# Altium integrated library LD1117S33CTR.IntLib: 1 symbol
Pins are listed as number, name and electrical type; pins without a type are passive.

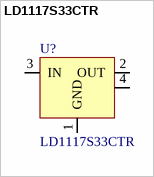
[diagram p0: symbol LD1117S33CTR]

## LD1117S33CTR
designator U?
ID: LD1117S33CTR; PDF: http://www.st.com/web/en/resource/technical/document/datasheet/CD00000544.pdf; BUY_LINK: http://www.digikey.com/product-detail/en/LD1117S33CTR/497-1241-1-ND/586241; PRICE: 0.54000
footprint SOT223 (SOT223, 4-Leads, Body 6.5x3.5mm, Pitch 2.3mm, Lead Span 7mm, IPC Medium Density)
pins: 1 GND, 2 OUT, 3 IN, 4 OUT